# EAGLE library part PSH02-10 (library #PaJa_konektory)
Konektory se zamkem - vidlice - 10pin
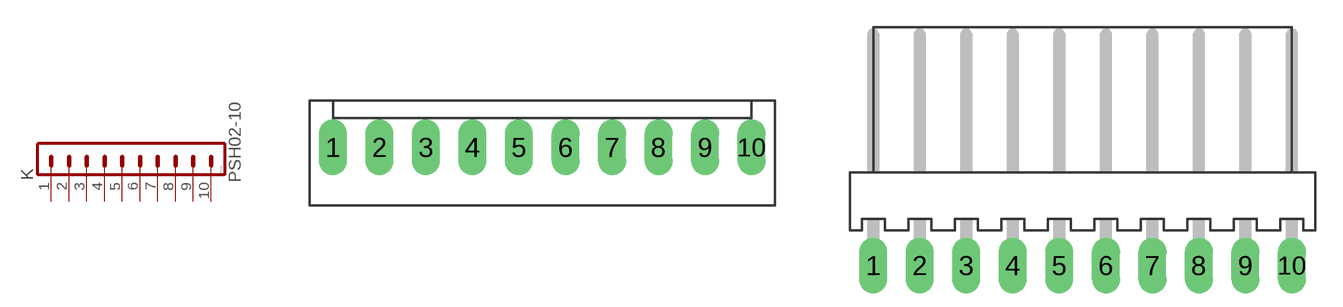
[diagram p13: symbol with the pads of PSH02-10P; footprints PSH02-10P, PSH02-10W]

Designator prefix K

## PSH02-10P  [PSH02-10P]
1  1  pas
2  2  pas
3  3  pas
4  4  pas
5  5  pas
6  6  pas
7  7  pas
8  8  pas
9  9  pas
10  10  pas

## PSH02-10W  [PSH02-10W]
Pads as for PSH02-10P

## Footprint PSH02-10P (pad centres in mm)
drill 1.016 pad 1.422 long: 1 -11.43,0; 2 -8.89,0; 3 -6.35,0; 4 -3.81,0; 5 -1.27,0; 6 1.27,0; 7 3.81,0; 8 6.35,0; 9 8.89,0; 10 11.43,0

## Footprint PSH02-10W (pad centres in mm)
drill 1.016 pad 1.422 long: 1 -11.43,0; 2 -8.89,0; 3 -6.35,0; 4 -3.81,0; 5 -1.27,0; 6 1.27,0; 7 3.81,0; 8 6.35,0; 9 8.89,0; 10 11.43,0